# Altium footprint library SnapEDApcb.PcbLib: 1 footprints
Each footprint in its own frame and in the unit in brackets; x right, y up, seen from the top. Pads: shape width x height; smd on the part's side, far side on the other; paste and mask are expansions set on the pad; w line width, h text height; cw(c..) or ccw(c..) is an arc to the next point about the centre after c.
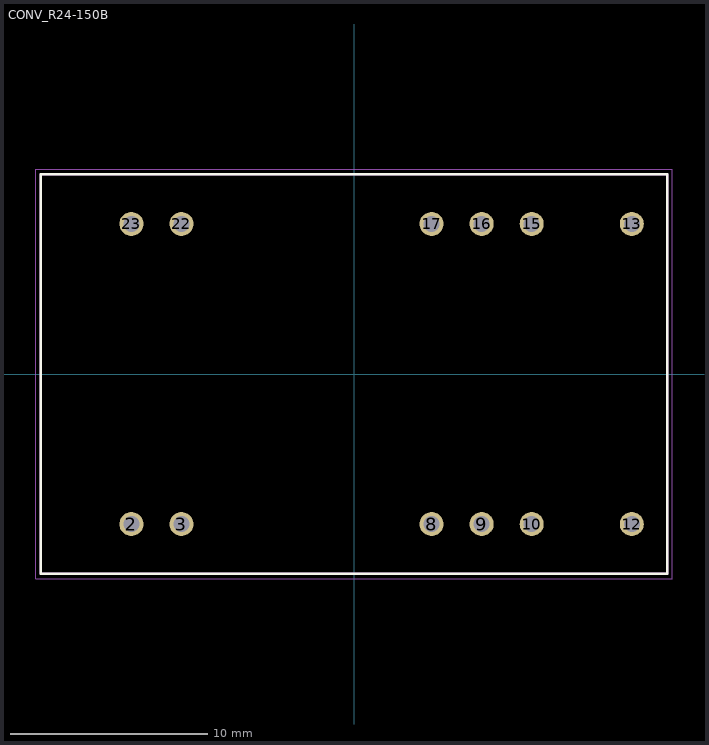
[diagram p0: the footprint, top view; thin cyan lines are the x and y axes]

## CONV_R24-150B [mm]
pads (12):
  round 1.22 hole 0.81: 2(-11.3,-7.62) 3(-8.76,-7.62) 8(3.94,-7.62) 9(6.48,-7.62) 10(9.02,-7.62) 12(14.1,-7.62) 13(14.1,7.62) 15(9.02,7.62) 16(6.48,7.62) 17(3.94,7.62) 22(-8.76,7.62) 23(-11.3,7.62)
Top Overlay:
  lines w0.127: -15.9,-10.15 15.9,-10.15 15.9,10.15 -15.9,10.15 -15.9,-10.15
Mechanical 13:
  lines w0.127: -15.9,-10.15 -15.9,10.15 15.9,10.15 15.9,-10.15 -15.9,-10.15
Mechanical 15:
  lines w0.05: -16.15,-10.4 16.15,-10.4 16.15,10.4 -16.15,10.4 -16.15,-10.4